# Altium schematic symbol library BMP581.SchLib: 1 symbol
Pins are listed as number, name and electrical type; pins without a type are passive.

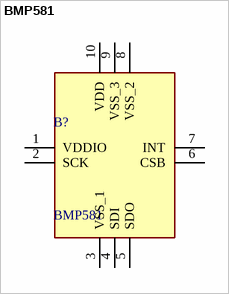
[diagram p0: symbol BMP581]

## BMP581
designator B?
Pressure Sensor 4.35PSI ~ 18.13PSI (30kPa ~ 125kPa) Absolute 10-WFLGA; Manufacturer_Name: BOSCH; Geometry.Height: 0.8mm; Manufacturer_Part_Number: BMP581; Mouser Part Number: 262-BMP581; Mouser Price/Stock: https://www.mouser.co.uk/ProductDetail/Bosch-Sensortec/BMP581?qs=Li%252BoUPsLEntPL9tlFmcgXg%3D%3D; Arrow Part Number: BMP581; Arrow Price/Stock: https://www.arrow.com/en/products/bmp581/bosch?utm_currency=USD&region=nac; Datasheet Link: https://www.bosch-sensortec.com/media/boschsensortec/downloads/datasheets/bst-bmp581-ds004.pdf
footprint BMP581
pins: 1 VDDIO, 2 SCK, 3 VSS_1, 4 SDI, 5 SDO, 6 CSB, 7 INT, 8 VSS_2, 9 VSS_3, 10 VDD